# Altium footprint library INDUCTOR-0805-BMC-Q SERIES.PcbLib: 1 footprints
Each footprint in its own frame and in the unit in brackets; x right, y up, seen from the top. Pads: shape width x height; smd on the part's side, far side on the other; paste and mask are expansions set on the pad; w line width, h text height; cw(c..) or ccw(c..) is an arc to the next point about the centre after c.
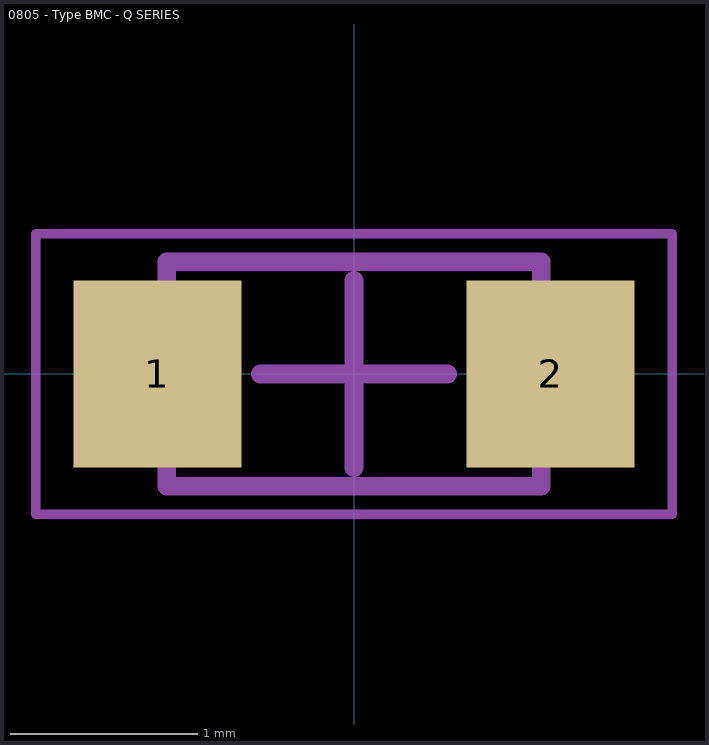
[diagram p0: the footprint, top view; thin cyan lines are the x and y axes]

## 0805 - Type BMC - Q SERIES [mm] "Chip Inductor, 2-Leads, Body 1.45x0.80mm, IPC Medium Density"
height 0.9
pads (2):
  rect 0.9x1 smd: 1(-1.05,0) 2(1.05,0)
Mechanical 13:
  lines w0.1: -1,-0.6 1,-0.6 1,0.6 -1,0.6 -1,-0.6
Mechanical 15:
  lines w0.05: -1.7,-0.75 1.7,-0.75 1.7,0.75 -1.7,0.75 -1.7,-0.75
  lines w0.1: -0.5,0 0.5,0 ; 0,-0.5 0,0.5
3D body "0805 - Type BMC - Q SERIES .step": height 0.9, standoff 0, extent -1,-0.6 1,0.6